# EAGLE library part WE-MCA_7488910092 (library Wurth_Signal & Communications_WE-MCA)
WE-MCA Antennas Characteristics SMT multilayer chip antenna Extremely low profile Omni-directional radiation pattern Excellent size to performance ratio Smallest form factor in the industry Less ground clearance Operating temperature: -40 °C to +85°C Applications me RF/Smart home GSM 900 WLAN/WiFi Bluetooth GPS/GNSS ZigBee Cellular Communication, 4G/LTE <https://www.we-online.com/katalog/media/o14819v209%20Family_WE-MCA.jpg> Details see: www.we-online.com/katalog/WE-MCA <www.we-online.com/catalog/WE-MCA/?utm_source=eagle_model&utm_medium=description_link&utm_campaign=eisos_eagle> Updated by Ella Wu 2019-08-16 2019 (C) Wurth Elektronik
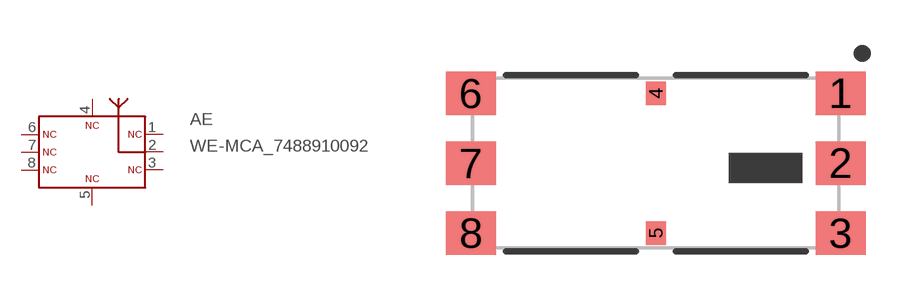
[diagram p0: symbol with the pads of WE-MCA_7488910092; footprint WE-MCA_7488910092]

Designator prefix AE

## WE-MCA_7488910092 (DATASHEET-URL: https://www.we-online.com/redexpert/spec/7488910092?ae; GPEAK: -0.7dBi; IMPEDANCE: 50ohm; MOUNT: SMT; PART-NUMBER: 7488910092; SIZE: 11 x 5.1 mm; VALUE: 868-960 MHz; VSWR: 2.5)  [WE-MCA_7488910092]
1  NC1  pas
2  FP  pas
3  NC3  pas
4  NC4  pas
5  NC5  pas
6  NC6  pas
7  NC7  pas
8  NC8  pas

## Footprint WE-MCA_7488910092 (pad centres in mm)
WE-MCA Antennas Single band
smd 1.5 x 1.3: 1 5.55,2.1; 2 5.55,0; 3 5.55,-2.1; 6 -5.55,2.1; 7 -5.55,0; 8 -5.55,-2.1
smd 0.6 x 0.7: 4 0,2.1; 5 0,-2.1